# Altium footprint library nucleo_st_link.PcbLib: 1 footprints
Each footprint in its own frame and in the unit in brackets; x right, y up, seen from the top. Pads: shape width x height; smd on the part's side, far side on the other; paste and mask are expansions set on the pad; w line width, h text height; cw(c..) or ccw(c..) is an arc to the next point about the centre after c.
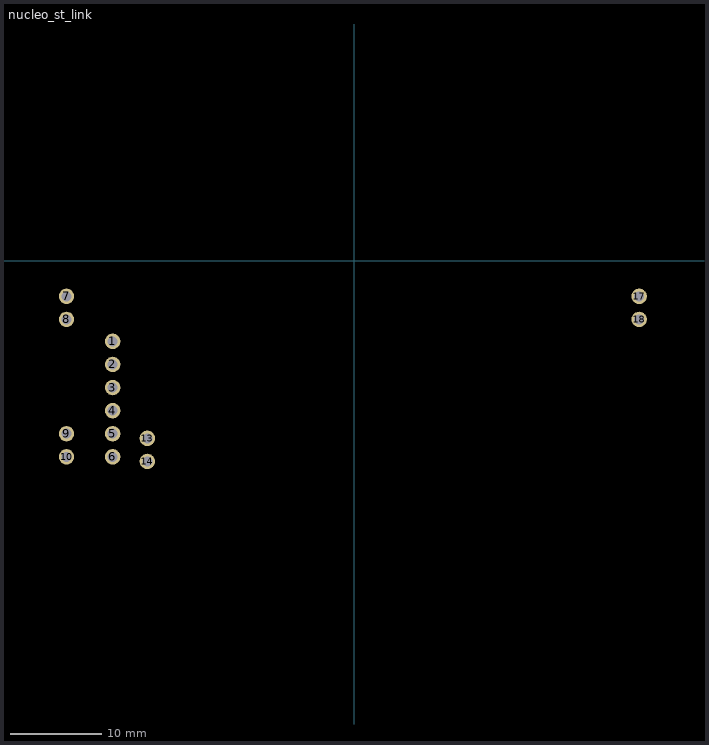
[diagram p0: the footprint, top view; thin cyan lines are the x and y axes]

## nucleo_st_link [mm]
pads (14):
  round 1.7 hole 1.1: 1(-26.543,-8.89) 2(-26.543,-11.43) 3(-26.543,-13.97) 4(-26.543,-16.51) 5(-26.543,-19.05) 6(-26.543,-21.59) 7(-31.623,-3.937) 8(-31.623,-6.477) 9(-31.623,-19.05) 10(-31.623,-21.59) 13(-22.733,-19.558) 14(-22.733,-22.098) 17(31.369,-3.937) 18(31.369,-6.477)
Bottom Overlay:
  lines w0.254: -32.893,-20.32 -32.893,-22.86 -30.353,-22.86 -30.353,-20.32 ; -32.893,-20.32 -30.353,-20.32 ; -32.893,-20.32 -32.893,-17.78 -30.353,-17.78 -30.353,-20.32 ; -32.893,-5.207 -32.893,-2.667 -30.353,-2.667 -30.353,-5.207 ; -32.893,-5.207 -30.353,-5.207 ; -32.893,-5.207 -32.893,-7.747 -30.353,-7.747 -30.353,-5.207 ; -27.813,-10.16 -27.813,-7.62 -25.273,-7.62 -25.273,-10.16 ; -27.813,-10.16 -25.273,-10.16 ; -27.813,-10.16 -27.813,-12.7 -27.813,-15.24 -27.813,-17.78 -27.813,-20.32 -27.813,-22.86 -25.273,-22.86 -25.273,-20.32 -25.273,-17.78 -25.273,-15.24 -25.273,-12.7 -25.273,-10.16 ; -24.003,-20.828 -24.003,-23.368 -21.463,-23.368 -21.463,-20.828 ; -24.003,-20.828 -21.463,-20.828 ; -24.003,-20.828 -24.003,-18.288 -21.463,-18.288 -21.463,-20.828 ; -13.97,-9.017 -13.97,-11.557 -11.43,-11.557 -11.43,-9.017 ; -13.97,-9.017 -11.43,-9.017 ; -13.97,-9.017 -13.97,-6.477 ; -13.97,-6.477 -11.43,-6.477 ; -13.97,-6.477 -13.97,-3.937 ; -13.97,-6.477 -11.43,-6.477 ; -13.97,-3.937 -11.43,-3.937 ; -13.97,-3.937 -13.97,-1.397 -11.43,-1.397 -11.43,-3.937 ; -11.43,-9.017 -11.43,-6.477 ; -11.43,-6.477 -11.43,-3.937 ; 30.099,-5.207 30.099,-2.667 32.639,-2.667 32.639,-5.207 ; 30.099,-5.207 32.639,-5.207 ; 30.099,-5.207 30.099,-7.747 32.639,-7.747 32.639,-5.207
  lines w0.3: -35,-24.96 -35,0 35,0 35,-24.96 -35,-24.96
3D body: height -2.43, standoff -13.99, extent -35,-24.96 35,1.313